# Altium footprint library zekering1.PcbLib: 2 footprints
Each footprint in its own frame and in the unit in brackets; x right, y up, seen from the top. Pads: shape width x height; smd on the part's side, far side on the other; paste and mask are expansions set on the pad; w line width, h text height; cw(c..) or ccw(c..) is an arc to the next point about the centre after c.
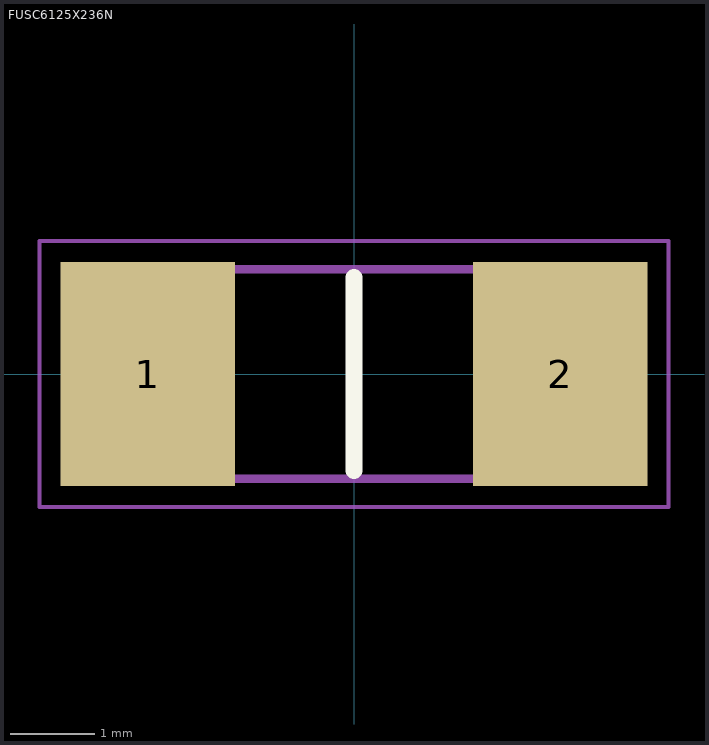
[diagram p0: the footprints below, top view; thin cyan lines are the x and y axes]

## FUSC6125X236N [mm]
pads (2):
  rect 2.07x2.66 smd: 1(-2.45,0) 2(2.45,0)
Top Overlay:
  lines w0.2: 0,-1.145 0,1.145
Mechanical 13:
  lines w0.1: -3.05,-1.245 -3.05,1.245 3.05,1.245 3.05,-1.245 -3.05,-1.245
Mechanical 15:
  lines w0.05: -3.735,-1.58 -3.735,1.58 3.735,1.58 3.735,-1.58 -3.735,-1.58
3D body "SF-2410SP063W-2.stp": height 2.16, standoff 0, extent -3.05,-1.245 3.05,1.245

## PCBComponent_1 [mm]